# EAGLE library part AD8319ACPZ-R7 (library AD8319ACPZ-R7)
ANALOG DEVICES - AD8319ACPZ-R7 - Logarithmic Amplifier, 1 Amplifier, 45 dB, 20 ns, LFCSP, 8 Pins Source: Datasheet <https://www.analog.com/media/en/technical-documentation/data-sheets/AD8319.pdf>
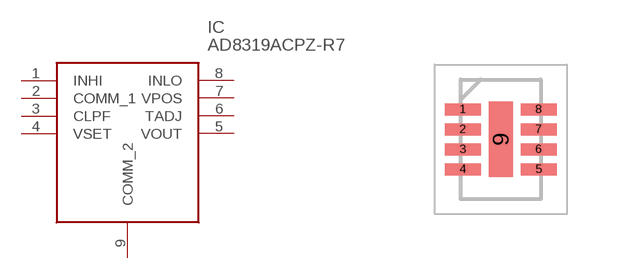
[diagram p0: symbol with the pads of SON50P200X300X80-9N; footprint SON50P200X300X80-9N]

Designator prefix IC

## AD8319ACPZ-R7 (Description: ANALOG DEVICES - AD8319ACPZ-R7 - Logarithmic Amplifier, 1 Amplifier, 45 dB, 20 ns, LFCSP, 8 Pins; Height: 0.8mm; Manufacturer_Name: Analog Devices; Manufacturer_Part_Number: AD8319ACPZ-R7; Mouser_Part_Number: 584-AD8319ACPZ-R7; Mouser_Price-Stock: https://www.mouser.co.uk/ProductDetail/Analog-Devices/AD8319ACPZ-R7?qs=%2FtpEQrCGXCzPBHijRykptA%3D%3D)  [SON50P200X300X80-9N]
1  INHI  in
2  COMM_1  pwr
3  CLPF  out
4  VSET  in
5  VOUT  out
6  TADJ  out
7  VPOS  pwr
8  INLO  in
9  COMM_2  pwr

## Footprint SON50P200X300X80-9N (pad centres in mm)
LFCSP-1
smd 0.9 x 0.3: 1 -0.95,0.75; 2 -0.95,0.25; 3 -0.95,-0.25; 4 -0.95,-0.75; 5 0.95,-0.75; 6 0.95,-0.25; 7 0.95,0.25; 8 0.95,0.75
smd 0.6 x 1.89: 9 0,0